# Altium schematic symbol library STS41A-AWLB-R3.SchLib: 1 symbol
Pins are listed as number, name and electrical type; pins without a type are passive.

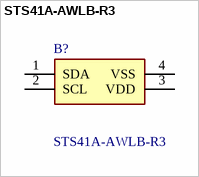
[diagram p0: symbol STS41A-AWLB-R3]

## STS41A-AWLB-R3
designator B?
Temperature Sensor Digital, Local -40C ~ 125C 16 b; Manufacturer_Name: Sensirion; Geometry.Height: 0.65mm; Mouser Part Number: *; Mouser Price/Stock: *; Manufacturer_Part_Number: STS41A-AWLB-R3; Datasheet Link: https://www.mouser.ee/datasheet/3/1278/1/43275AE2DF69B96E1EE51D04FE33A8965C8A26ED3D33DDCB8BA22F99BAA99334.pdf
footprint STS41AAWLBR3
pins: 1 SDA, 2 SCL, 3 VDD, 4 VSS